# Altium integrated library SunPlus Video Console.IntLib: 3 symbols
Pins are listed as number, name and electrical type; pins without a type are passive.

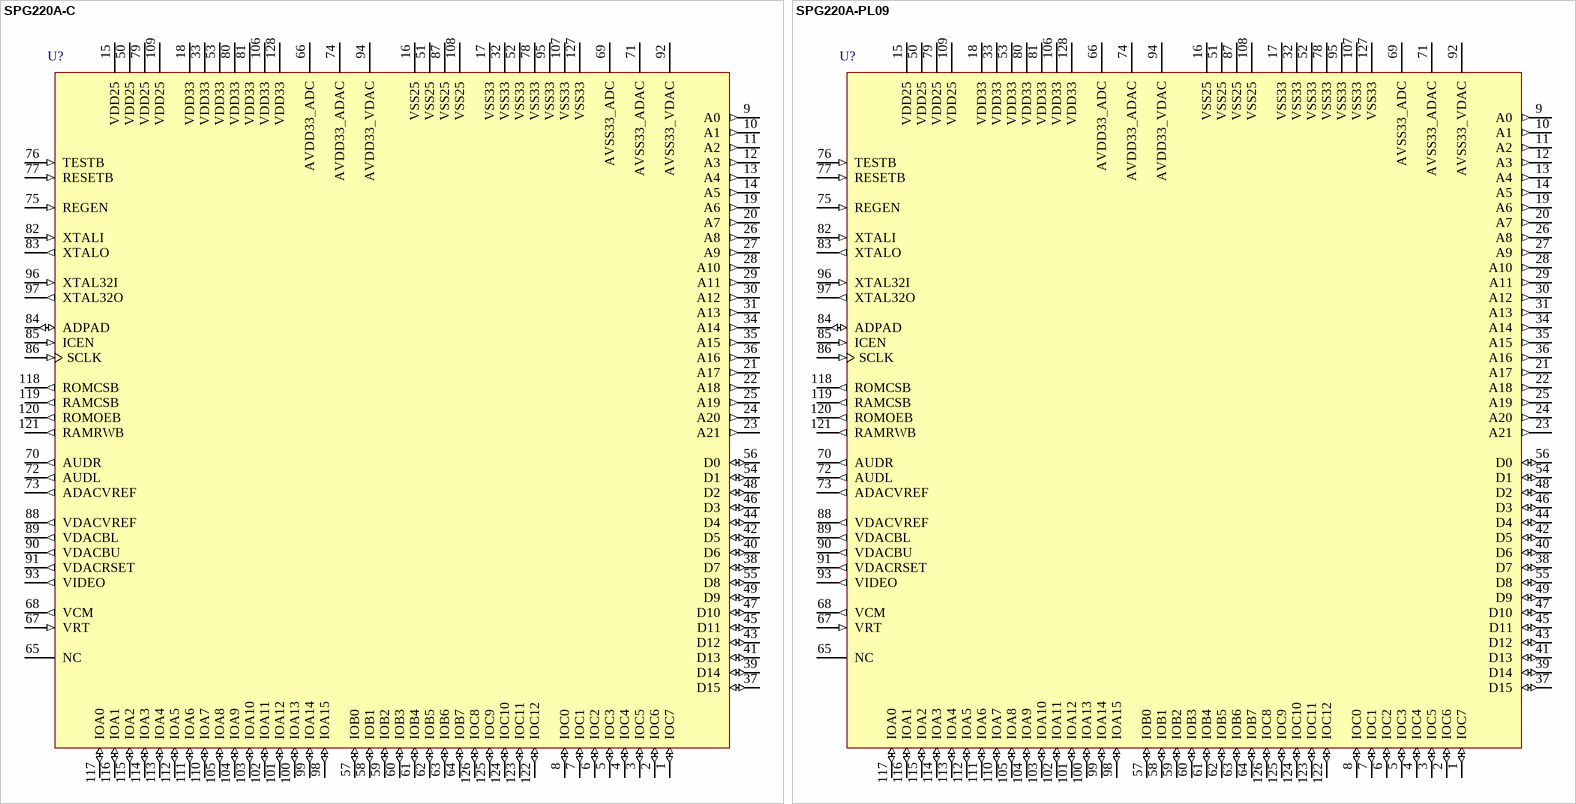
[diagram p0: symbols SPG220A-C to SPG220A-PL09]

## SPG220A-C
designator U?
16-Bit Video Console, 2.7V - 3.6V range, 27 MHz CPU, Chip Form; PackageForm: Supplied as a Die.; Published: 30-Mar-2007; DatasheetVersion: Ver1.0, Nov-2004; PackageReference: Chip_Form; Publisher: Altium Limited; ComponentLink1Description: Manufacturer Link; ComponentLink1URL: http://w3.sunplus.com/
pins: 1 IOC7 (io), 2 IOC6 (io), 3 IOC5 (io), 4 IOC4 (io), 5 IOC3 (io), 6 IOC2 (io), 7 IOC1 (io), 8 IOC0 (io), 9 A0 (out), 10 A1 (out), 11 A2 (out), 12 A3 (out), 13 A4 (out), 14 A5 (out), 15 VDD25 (power), 16 VSS25 (power), 17 VSS33 (power), 18 VDD33 (power), 19 A6 (out), 20 A7 (out), 21 A17 (out), 22 A18 (out), 23 A21 (out), 24 A20 (out), 25 A19 (out), 26 A8 (out), 27 A9 (out), 28 A10 (out), 29 A11 (out), 30 A12 (out), 31 A13 (out), 32 VSS33 (power), 33 VDD33 (power), 34 A14 (out), 35 A15 (out), 36 A16 (out), 37 D15 (io), 38 D7 (io), 39 D14 (io), 40 D6 (io), 41 D13 (io), 42 D5 (io), 43 D12 (io), 44 D4 (io), 45 D11 (io), 46 D3 (io), 47 D10 (io), 48 D2 (io), 49 D9 (io), 50 VDD25 (power), 51 VSS25 (power), 52 VSS33 (power), 53 VDD33 (power), 54 D1 (io), 55 D8 (io), 56 D0 (io), 57 IOB0 (io), 58 IOB1 (io), 59 IOB2 (io), 60 IOB3 (io), 61 IOB4 (io), 62 IOB5 (io), 63 IOB6 (io), 64 IOB7 (io), 65 NC, 66 AVDD33_ADC (power), 67 VRT (in), 68 VCM (out), 69 AVSS33_ADC (power), 70 AUDR (out), 71 AVSS33_ADAC (power), 72 AUDL (out), 73 ADACVREF (out), 74 AVDD33_ADAC (power), 75 REGEN (in), 76 TESTB (in), 77 RESETB (in), 78 VSS33 (power), 79 VDD25 (power), 80 VDD33 (power), 81 VDD33 (power), 82 XTALI (in), 83 XTALO (out), 84 ADPAD (io), 85 ICEN (in), 86 SCLK (in), 87 VSS25 (power), 88 VDACVREF (out), 89 VDACBL (out), 90 VDACBU (out), 91 VDACRSET (out), 92 AVSS33_VDAC (power), 93 VIDEO (out), 94 AVDD33_VDAC (power), 95 VSS33 (power), 96 XTAL32I (in), 97 XTAL32O (out), 98 IOA15 (io), 99 IOA14 (io), 100 IOA13 (io), 101 IOA12 (io), 102 IOA11 (io), 103 IOA10 (io), 104 IOA9 (io), 105 IOA8 (io), 106 VDD33 (power), 107 VSS33 (power), 108 VSS25 (power), 109 VDD25 (power), 110 IOA7 (io), 111 IOA6 (io), 112 IOA5 (io), 113 IOA4 (io), 114 IOA3 (io), 115 IOA2 (io), 116 IOA1 (io), 117 IOA0 (io), 118 ROMCSB (out), 119 RAMCSB (out), 120 ROMOEB (out), 121 RAMRWB (out), 122 IOC12 (io), 123 IOC11 (io), 124 IOC10 (io), 125 IOC9 (io), 126 IOC8 (io), 127 VSS33 (power), 128 VDD33 (power)

## SPG220A-PL09
designator U?
16-Bit Video Console, 2.7V - 3.6V range, 27 MHz CPU, 128-Pin LQFP; Published: 30-Mar-2007; DatasheetVersion: Ver1.0, Nov-2004; PackageVersion: Nov-2004; PackageReference: LQFP128; Publisher: Altium Limited; PackageDescription: 128-Pin Low Profile Quad Flat Pack; ComponentLink1Description: Manufacturer Link; ComponentLink1URL: http://w3.sunplus.com/
footprint LQFP128_N (Thin QFP, 128-Leads, Body 14x14mm, Pitch 0.4mm, IPC Medium Density)
footprint LQFP128_L (Thin QFP, 128-Leads, Body 14x14mm, Pitch 0.4mm, IPC High Density)
footprint LQFP128_M (Thin QFP, 128-Leads, Body 14x14mm, Pitch 0.4mm, IPC Low Density)
3D model SPG220A-PL09-LQFP128 (128-Pin Low Profile Quad Flat Pack)
pins: 1 IOC7 (io), 2 IOC6 (io), 3 IOC5 (io), 4 IOC4 (io), 5 IOC3 (io), 6 IOC2 (io), 7 IOC1 (io), 8 IOC0 (io), 9 A0 (out), 10 A1 (out), 11 A2 (out), 12 A3 (out), 13 A4 (out), 14 A5 (out), 15 VDD25 (power), 16 VSS25 (power), 17 VSS33 (power), 18 VDD33 (power), 19 A6 (out), 20 A7 (out), 21 A17 (out), 22 A18 (out), 23 A21 (out), 24 A20 (out), 25 A19 (out), 26 A8 (out), 27 A9 (out), 28 A10 (out), 29 A11 (out), 30 A12 (out), 31 A13 (out), 32 VSS33 (power), 33 VDD33 (power), 34 A14 (out), 35 A15 (out), 36 A16 (out), 37 D15 (io), 38 D7 (io), 39 D14 (io), 40 D6 (io), 41 D13 (io), 42 D5 (io), 43 D12 (io), 44 D4 (io), 45 D11 (io), 46 D3 (io), 47 D10 (io), 48 D2 (io), 49 D9 (io), 50 VDD25 (power), 51 VSS25 (power), 52 VSS33 (power), 53 VDD33 (power), 54 D1 (io), 55 D8 (io), 56 D0 (io), 57 IOB0 (io), 58 IOB1 (io), 59 IOB2 (io), 60 IOB3 (io), 61 IOB4 (io), 62 IOB5 (io), 63 IOB6 (io), 64 IOB7 (io), 65 NC, 66 AVDD33_ADC (power), 67 VRT (in), 68 VCM (out), 69 AVSS33_ADC (power), 70 AUDR (out), 71 AVSS33_ADAC (power), 72 AUDL (out), 73 ADACVREF (out), 74 AVDD33_ADAC (power), 75 REGEN (in), 76 TESTB (in), 77 RESETB (in), 78 VSS33 (power), 79 VDD25 (power), 80 VDD33 (power), 81 VDD33 (power), 82 XTALI (in), 83 XTALO (out), 84 ADPAD (io), 85 ICEN (in), 86 SCLK (in), 87 VSS25 (power), 88 VDACVREF (out), 89 VDACBL (out), 90 VDACBU (out), 91 VDACRSET (out), 92 AVSS33_VDAC (power), 93 VIDEO (out), 94 AVDD33_VDAC (power), 95 VSS33 (power), 96 XTAL32I (in), 97 XTAL32O (out), 98 IOA15 (io), 99 IOA14 (io), 100 IOA13 (io), 101 IOA12 (io), 102 IOA11 (io), 103 IOA10 (io), 104 IOA9 (io), 105 IOA8 (io), 106 VDD33 (power), 107 VSS33 (power), 108 VSS25 (power), 109 VDD25 (power), 110 IOA7 (io), 111 IOA6 (io), 112 IOA5 (io), 113 IOA4 (io), 114 IOA3 (io), 115 IOA2 (io), 116 IOA1 (io), 117 IOA0 (io), 118 ROMCSB (out), 119 RAMCSB (out), 120 ROMOEB (out), 121 RAMRWB (out), 122 IOC12 (io), 123 IOC11 (io), 124 IOC10 (io), 125 IOC9 (io), 126 IOC8 (io), 127 VSS33 (power), 128 VDD33 (power)

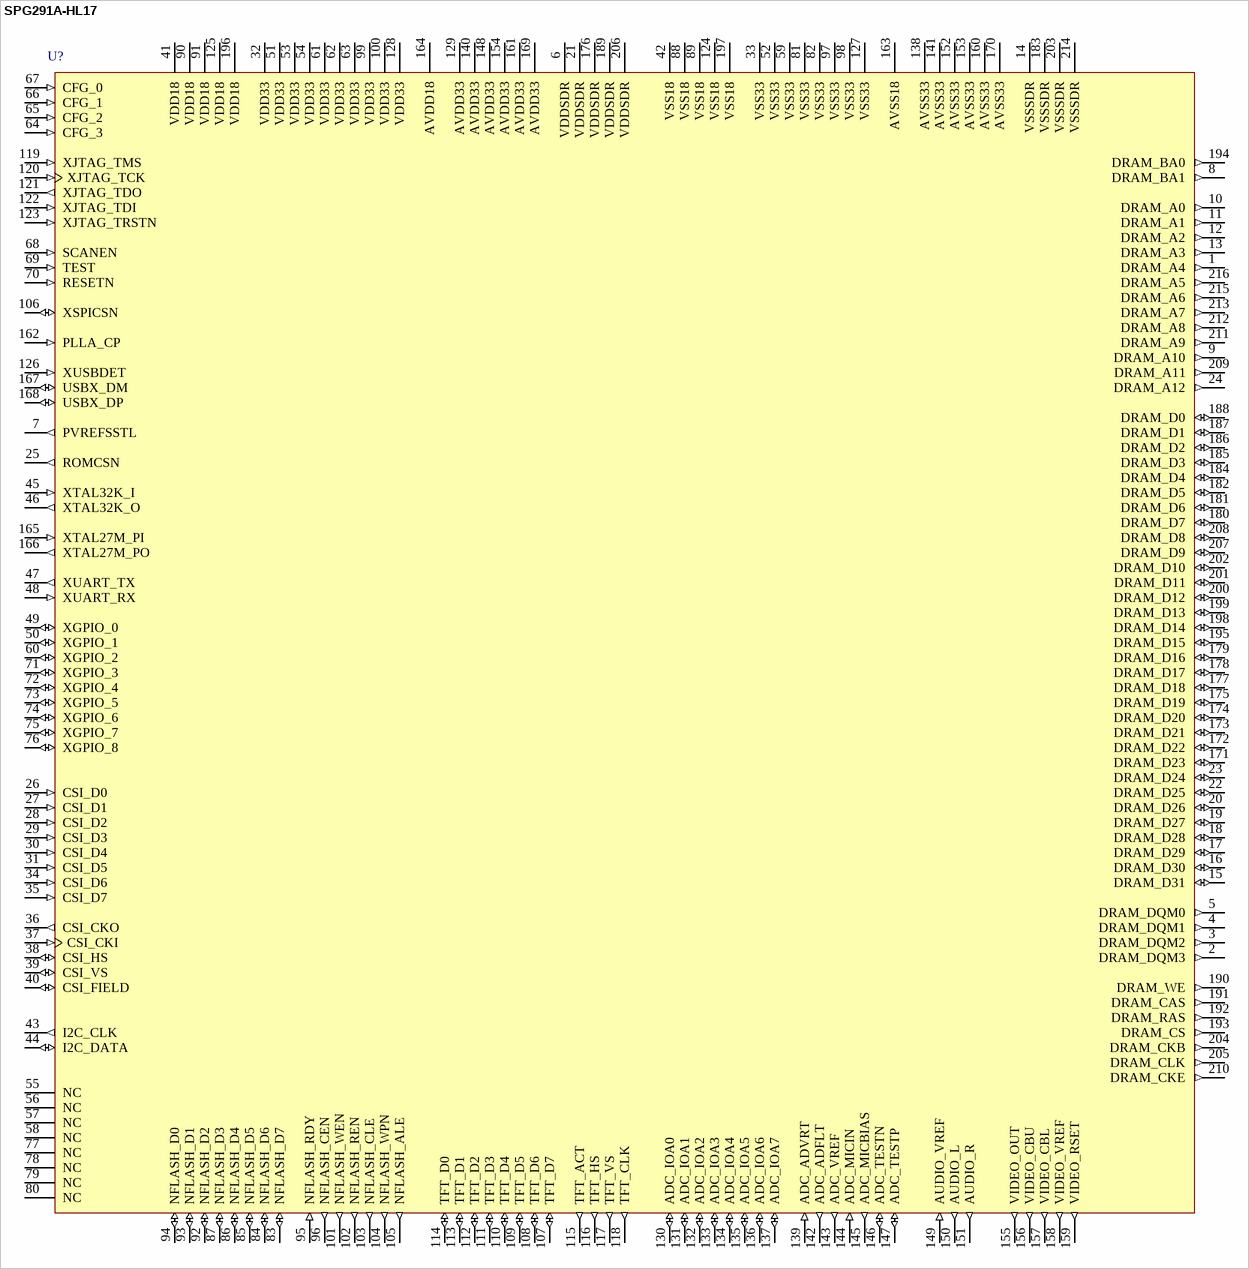
[diagram p1: symbol SPG291A-HL17]

## SPG291A-HL17
designator U?
32-Bit Video Console, 162 MHz CPU, 216-Pin LQFP, Pb-Free; Published: 30-Mar-2007; DatasheetVersion: Ver1.0, Sep-2006; PackageReference: LQFP216; Publisher: Altium Limited; PackageDescription: Footprint Unavailable; ComponentLink1Description: Manufacturer Link; ComponentLink1URL: http://w3.sunplus.com/
footprint LQFP216 (Footprint Unavailable)
pins: 1 DRAM_A4 (out), 2 DRAM_DQM3 (out), 3 DRAM_DQM2 (out), 4 DRAM_DQM1 (out), 5 DRAM_DQM0 (out), 6 VDDSDR (power), 7 PVREFSSTL (out), 8 DRAM_BA1 (out), 9 DRAM_A10 (out), 10 DRAM_A0 (out), 11 DRAM_A1 (out), 12 DRAM_A2 (out), 13 DRAM_A3 (out), 14 VSSSDR (power), 15 DRAM_D31 (io), 16 DRAM_D30 (io), 17 DRAM_D29 (io), 18 DRAM_D28 (io), 19 DRAM_D27 (io), 20 DRAM_D26 (io), 21 VDDSDR (power), 22 DRAM_D25 (io), 23 DRAM_D24 (io), 24 DRAM_A12 (out), 25 ROMCSN (out), 26 CSI_D0 (in), 27 CSI_D1 (in), 28 CSI_D2 (in), 29 CSI_D3 (in), 30 CSI_D4 (in), 31 CSI_D5 (in), 32 VDD33 (power), 33 VSS33 (power), 34 CSI_D6 (in), 35 CSI_D7 (in), 36 CSI_CKO (out), 37 CSI_CKI (in), 38 CSI_HS (io), 39 CSI_VS (io), 40 CSI_FIELD (io), 41 VDD18 (power), 42 VSS18 (power), 43 I2C_CLK (out), 44 I2C_DATA (io), 45 XTAL32K_I (in), 46 XTAL32K_O (out), 47 XUART_TX (out), 48 XUART_RX (in), 49 XGPIO_0 (io), 50 XGPIO_1 (io), 51 VDD33 (power), 52 VSS33 (power), 53 VDD33 (power), 54 VDD33 (power), 55 NC, 56 NC, 57 NC, 58 NC, 59 VSS33 (power), 60 XGPIO_2 (io), 61 VDD33 (power), 62 VDD33 (power), 63 VDD33 (power), 64 CFG_3 (in), 65 CFG_2 (in), 66 CFG_1 (in), 67 CFG_0 (in), 68 SCANEN (in), 69 TEST (in), 70 RESETN (in), 71 XGPIO_3 (io), 72 XGPIO_4 (io), 73 XGPIO_5 (io), 74 XGPIO_6 (io), 75 XGPIO_7 (io), 76 XGPIO_8 (io), 77 NC, 78 NC, 79 NC, 80 NC, 81 VSS33 (power), 82 VSS33 (power), 83 NFLASH_D7 (io), 84 NFLASH_D6 (io), 85 NFLASH_D5 (io), 86 NFLASH_D4 (io), 87 NFLASH_D3 (io), 88 VSS18 (power), 89 VSS18 (power), 90 VDD18 (power), 91 VDD18 (power), 92 NFLASH_D2 (io), 93 NFLASH_D1 (io), 94 NFLASH_D0 (io), 95 NFLASH_RDY (in), 96 NFLASH_CEN (out), 97 VSS33 (power), 98 VSS33 (power), 99 VDD33 (power), 100 VDD33 (power), 101 NFLASH_WEN (out), 102 NFLASH_REN (out), 103 NFLASH_CLE (out), 104 NFLASH_WPN (out), 105 NFLASH_ALE (out), 106 XSPICSN (io), 107 TFT_D7 (io), 108 TFT_D6 (io), 109 TFT_D5 (io), 110 TFT_D4 (io), 111 TFT_D3 (io), 112 TFT_D2 (io), 113 TFT_D1 (io), 114 TFT_D0 (io), 115 TFT_ACT (out), 116 TFT_HS (out), 117 TFT_VS (out), 118 TFT_CLK (out), 119 XJTAG_TMS (in), 120 XJTAG_TCK (in), 121 XJTAG_TDO (out), 122 XJTAG_TDI (in), 123 XJTAG_TRSTN (in), 124 VSS18 (power), 125 VDD18 (power), 126 XUSBDET (in), 127 VSS33 (power), 128 VDD33 (power), 129 AVDD33 (power), 130 ADC_IOA0 (io), 131 ADC_IOA1 (io), 132 ADC_IOA2 (io), 133 ADC_IOA3 (io), 134 ADC_IOA4 (io), 135 ADC_IOA5 (io), 136 ADC_IOA6 (io), 137 ADC_IOA7 (io), 138 AVSS33 (power), 139 ADC_ADVRT (in), 140 AVDD33 (power), 141 AVSS33 (power), 142 ADC_ADFLT (out), 143 ADC_VREF (out), 144 ADC_MICIN (in), 145 ADC_MICBIAS (out), 146 ADC_TESTN (io), 147 ADC_TESTP (io), 148 AVDD33 (power), 149 AUDIO_VREF (in), 150 AUDIO_L (out), 151 AUDIO_R (out), 152 AVSS33 (power), 153 AVSS33 (power), 154 AVDD33 (power), 155 VIDEO_OUT (out), 156 VIDEO_CBU (out), 157 VIDEO_CBL (out), 158 VIDEO_VREF (out), 159 VIDEO_RSET (out), 160 AVSS33 (power), 161 AVDD33 (power), 162 PLLA_CP (in), 163 AVSS18 (power), 164 AVDD18 (power), 165 XTAL27M_PI (in), 166 XTAL27M_PO (out), 167 USBX_DM (io), 168 USBX_DP (io), 169 AVDD33 (power), 170 AVSS33 (power), 171 DRAM_D23 (io), 172 DRAM_D22 (io), 173 DRAM_D21 (io), 174 DRAM_D20 (io), 175 DRAM_D19 (io), 176 VDDSDR (power), 177 DRAM_D18 (io), 178 DRAM_D17 (io), 179 DRAM_D16 (io), 180 DRAM_D7 (io), 181 DRAM_D6 (io), 182 DRAM_D5 (io), 183 VSSSDR (power), 184 DRAM_D4 (io), 185 DRAM_D3 (io), 186 DRAM_D2 (io), 187 DRAM_D1 (io), 188 DRAM_D0 (io), 189 VDDSDR (power), 190 DRAM_WE (out), 191 DRAM_CAS (out), 192 DRAM_RAS (out), 193 DRAM_CS (out), 194 DRAM_BA0 (out), 195 DRAM_D15 (io), 196 VDD18 (power), 197 VSS18 (power), 198 DRAM_D14 (io), 199 DRAM_D13 (io), 200 DRAM_D12 (io), 201 DRAM_D11 (io), 202 DRAM_D10 (io), 203 VSSSDR (power), 204 DRAM_CKB (out), 205 DRAM_CLK (out), 206 VDDSDR (power), 207 DRAM_D9 (io), 208 DRAM_D8 (io), 209 DRAM_A11 (out), 210 DRAM_CKE (out), 211 DRAM_A9 (out), 212 DRAM_A8 (out), 213 DRAM_A7 (out), 214 VSSSDR (power), 215 DRAM_A6 (out), 216 DRAM_A5 (out)